# Altium footprint library MEGA.PcbLib: 13 footprints
Each footprint in its own frame and in the unit in brackets; x right, y up, seen from the top. Pads: shape width x height; smd on the part's side, far side on the other; paste and mask are expansions set on the pad; w line width, h text height; cw(c..) or ccw(c..) is an arc to the next point about the centre after c.
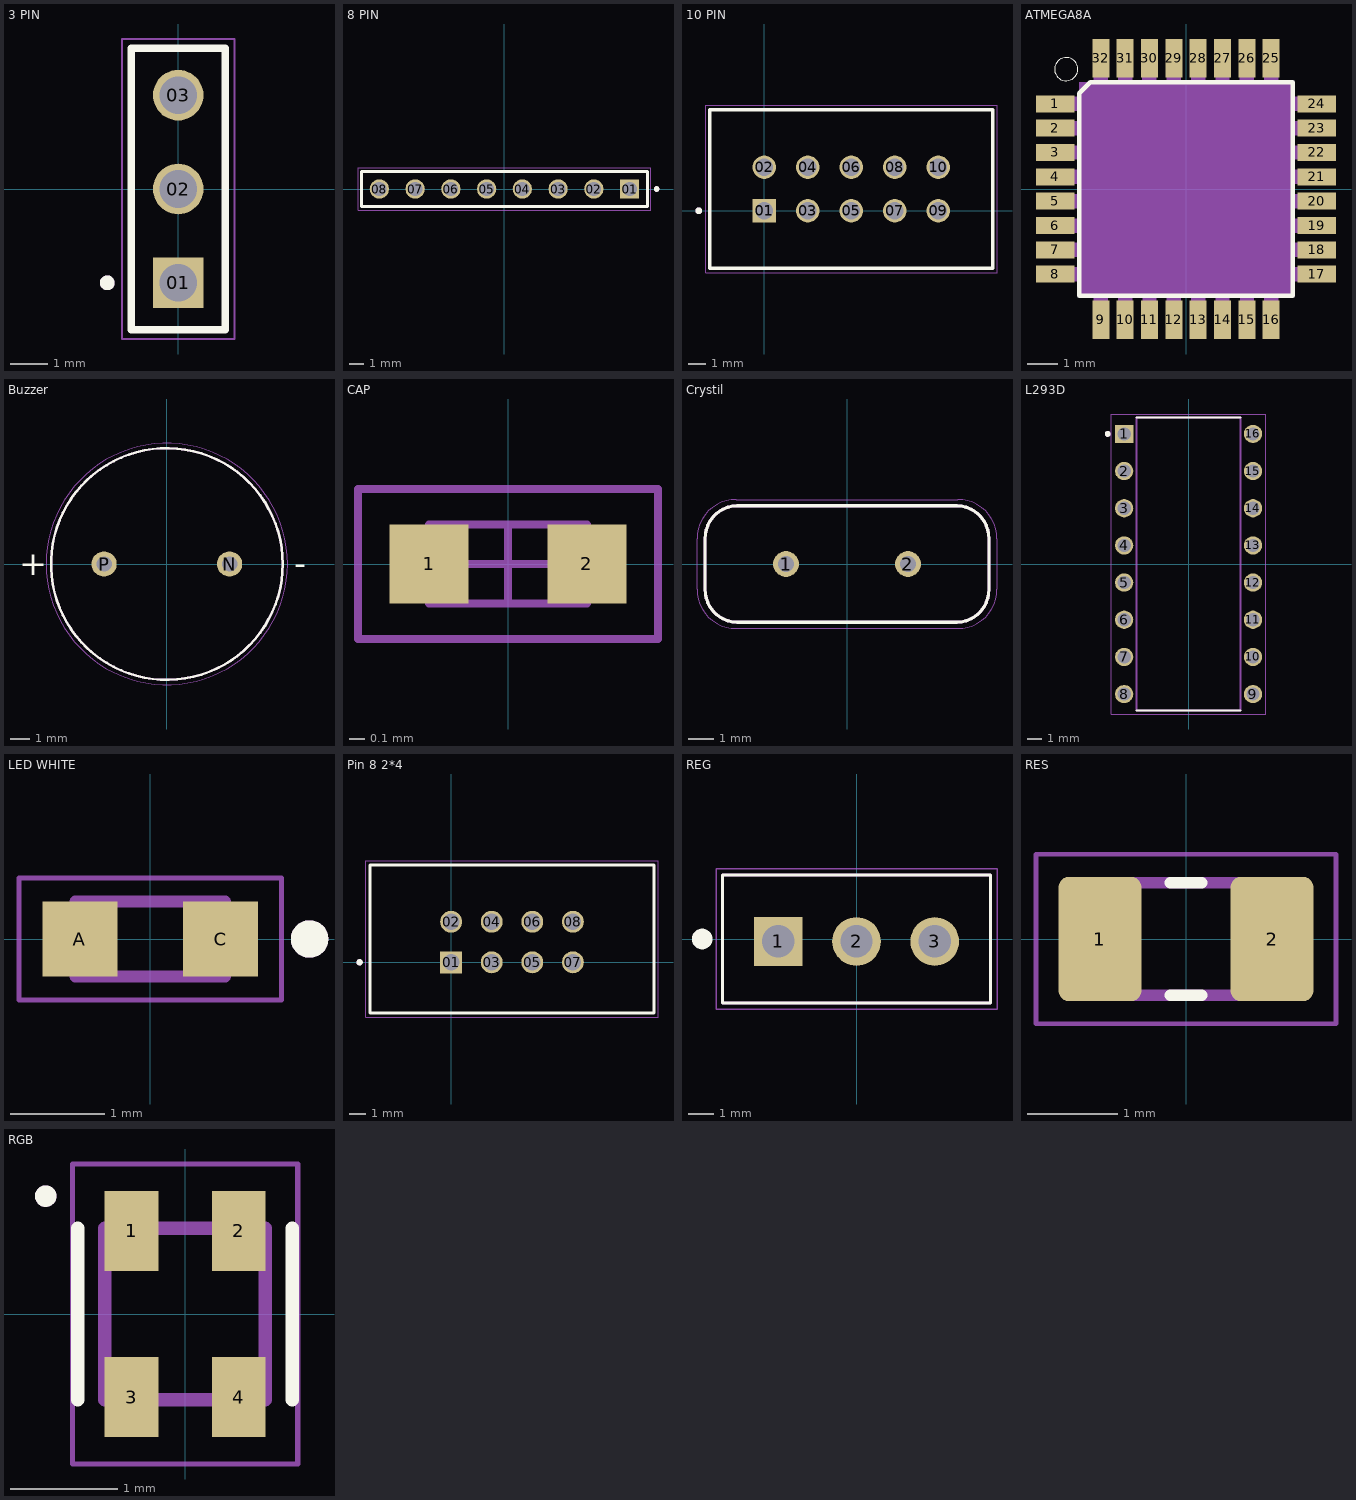
[diagram p0: the footprints below, top view; thin cyan lines are the x and y axes]

## 3 PIN [mm]
pads (3):
  rect 1.37x1.37 / inner round 1.37 / far side rect 1.37x1.37 hole 1.02: 01(0,-2.54)
  round 1.37 hole 1.02: 02(0,0) 03(0,2.54)
Top Overlay:
  circle w0.2: c-1.92,-2.54 r0.1
  lines w0.2: -1.27,-3.81 -1.27,3.81 1.27,3.81 1.27,-3.81 -1.27,-3.81
Mechanical 13:
  circle w0.2: c-1.92,-2.54 r0.1
  lines w0.1: -1.27,-3.81 -1.27,3.81 ; -1.27,-3.81 1.27,-3.81 ; -1.27,-3.81 -1.27,3.81 ; -1.27,3.81 1.27,3.81 ; -1.27,3.81 1.27,3.81 ; 1.27,-3.81 1.27,3.81 ; 1.27,-3.81 1.27,3.81
Mechanical 15:
  lines w0.05: -1.52,-4.06 -1.52,4.06 1.52,4.06 1.52,-4.06 -1.52,-4.06
3D body "TSW-101-07-T-T.stp": height 7.89, standoff -3.04, extent -1.27,-3.81 1.27,3.81

## 8 PIN [mm]
pads (8):
  rect 1.37x1.37 / inner round 1.37 / far side rect 1.37x1.37 hole 1.02: 01(8.89,0)
  round 1.37 hole 1.02: 02(6.35,0) 03(3.81,0) 04(1.27,0) 05(-1.27,0) 06(-3.81,0) 07(-6.35,0) 08(-8.89,0)
Top Overlay:
  circle w0.2: c10.81,0 r0.1
  lines w0.2: -10.16,-1.245 10.16,-1.245 10.16,1.245 -10.16,1.245 -10.16,-1.245
Mechanical 13:
  circle w0.2: c10.81,0 r0.1
  lines w0.1: -10.16,-1.245 10.16,-1.245 10.16,1.245 -10.16,1.245 -10.16,-1.245
Mechanical 15:
  lines w0.05: -10.41,-1.495 10.41,-1.495 10.41,1.495 -10.41,1.495 -10.41,-1.495
3D body "HEADER 8 PIN.stp": height 7.89, standoff -3.04, extent -10.16,-1.245 10.16,1.245

## 10 PIN [mm]
pads (10):
  rect 1.37x1.37 hole 1.02: 01(0,0)
  round 1.37 hole 1.02: 02(0,2.54) 03(2.54,0) 04(2.54,2.54) 05(5.08,0) 06(5.08,2.54) 07(7.62,0) 08(7.62,2.54) 09(10.16,0) 10(10.16,2.54)
Top Overlay:
  circle w0.2: c-3.825,0 r0.1
  lines w0.2: -3.175,-3.365 -3.175,5.905 13.335,5.905 13.335,-3.365 -3.175,-3.365
Mechanical 13:
  circle w0.2: c-3.825,0 r0.1
  lines w0.1: -3.175,-3.365 -3.175,5.905 13.335,5.905 13.335,-3.365 -3.175,-3.365
Mechanical 15:
  lines w0.05: -3.425,-3.615 -3.425,6.155 13.585,6.155 13.585,-3.615 -3.425,-3.615
3D body "TSS-105-02-L-D.stp": height 8.9, standoff -4.56, extent -3.048,-3.302 13.462,5.969

## ATMEGA8A [mil]
pads (32):
  rect 50x22 smd: 1(-169,110.24) 2(-169,78.74) 3(-169,47.24) 4(-169,15.75) 5(-169,-15.75) 6(-169,-47.24) 7(-169,-78.74) 8(-169,-110.24) 17(169,-110.24) 18(169,-78.74) 19(169,-47.24) 20(169,-15.75) 21(169,15.75) 22(169,47.24) 23(169,78.74) 24(169,110.24)
  rect 22x50 smd: 9(-110.24,-169) 10(-78.74,-169) 11(-47.24,-169) 12(-15.75,-169) 13(15.75,-169) 14(47.24,-169) 15(78.74,-169) 16(110.24,-169) 25(110.24,169) 26(78.74,169) 27(47.24,169) 28(15.75,169) 29(-15.75,169) 30(-47.24,169) 31(-78.74,169) 32(-110.24,169)
Top Overlay:
  circle w0: c-155,155 r15
  lines w6: -137.99,-137.99 -137.99,124.02 -124.02,137.99 137.99,137.99 137.99,-137.99 -137.99,-137.99
Mechanical 13:
  region: -101.24,140.03 -119.26,140.03 -119.26,179 -101.24,179
  region: -69.74,140.04 -87.76,140.04 -87.76,179 -69.74,179
  region: -38.24,140.21 -56.33,140.21 -56.33,179 -38.24,179
  region: -6.75,140.18 -24.78,140.18 -24.78,179 -6.75,179
  region: 24.75,140.16 6.76,140.16 6.76,179 24.75,179
  region: 56.24,140.03 38.25,140.03 38.25,179 56.24,179
  region: 87.74,140.14 69.81,140.14 69.81,179 87.74,179
  region: 119.24,140.15 101.35,140.15 101.35,179 119.24,179
  region: 179,101.32 140.12,101.32 140.12,119.24 179,119.24
  region: 179,69.77 140.07,69.77 140.07,87.74 179,87.74
  region: 179,38.25 140.04,38.25 140.04,56.24 179,56.24
  region: 179,6.76 140.25,6.76 140.25,24.75 179,24.75
  region: 179,-24.77 140.1,-24.77 140.1,-6.75 179,-6.75
  region: 179,-56.28 140.1,-56.28 140.1,-38.24 179,-38.24
  region: 179,-87.85 140.17,-87.85 140.17,-69.74 179,-69.74
  region: 179,-119.34 140.12,-119.34 140.12,-101.24 179,-101.24
  region: 119.24,-179.16 101.33,-179.16 101.33,-140 119.24,-140
  region: 87.74,-179.3 69.86,-179.3 69.86,-140 87.74,-140
  region: 56.24,-179.17 38.28,-179.17 38.28,-140 56.24,-140
  region: 24.75,-179.27 6.76,-179.27 6.76,-140 24.75,-140
  region: -6.75,-179.09 -24.76,-179.09 -24.76,-140 -6.75,-140
  region: -38.24,-179.01 -56.25,-179.01 -56.25,-140 -38.24,-140
  region: -69.74,-179.12 -87.8,-179.12 -87.8,-140 -69.74,-140
  region: -101.24,-179 -119.24,-179 -119.24,-140 -101.24,-140
  region: -140,-119.37 -179.21,-119.37 -179.21,-101.24 -140,-101.24
  region: -140,-87.87 -179.27,-87.87 -179.27,-69.74 -140,-69.74
  region: -140,-56.27 -179.07,-56.27 -179.07,-38.24 -140,-38.24
  region: -140,-24.78 -179.25,-24.78 -179.25,-6.75 -140,-6.75
  region: -140,6.75 -179.16,6.75 -179.16,24.75 -140,24.75
  region: -140,38.24 -179,38.24 -179,56.24 -140,56.24
  region: -140,69.79 -179.14,69.79 -179.14,87.74 -140,87.74
  region: -140,101.33 -179.17,101.33 -179.17,119.24 -140,119.24
Mechanical 15:
  region: 137.99,-138.1 -138.1,-138.1 -138.1,137.99 137.99,137.99
3D body "step_temp.STEP": height 20.67, standoff -26.57, extent -177.17,-177.17 177.17,177.17

## Buzzer [mm]
pads (2):
  round 1.308 hole 0.8: N(3.25,0) P(-3.25,0)
Top Overlay:
  circle w0.127: c0,0 r6
  text "+" at -7.655,-0.571 h1.27
  text "-" at 6.608,-0.571 h1.27
Mechanical 13:
  circle w0.127: c0,0 r6
Mechanical 15:
  circle w0.05: c0,0 r6.25
3D body "step_temp.STEP": height 8.5, standoff -5.5, extent -6,-6 6,6

## CAP [mm]
height 0.5
pads (2):
  rect 0.5x0.5 smd: 1(-0.5,0) 2(0.5,0)
Top Courtyard:
  lines w0.05: -0.95,-0.475 -0.95,0.475 0.95,0.475 0.95,-0.475 -0.95,-0.475
Top Component Outline:
  lines w0.05: -0.5,-0.25 -0.5,0.25 0.5,0.25 0.5,-0.25 -0.5,-0.25
Top Component Center:
  lines w0.05: -0.25,0 0.25,0 ; 0,-0.25 0,0.25
3D body "CAPC1005X05N.step": height 0.5, standoff 0, extent -0.5,-0.25 0.5,0.25

## Crystil [mm]
pads (2):
  round 1.03 hole 0.63: 1(-2.44,0) 2(2.44,0)
Top Overlay:
  lines w0.127: -5.675,-1.012 ccw(c-4.38,-1.035) -4.403,-2.33 ; -5.675,-1.01 -5.675,1.01 ; -5.675,1.012 cw(c-4.38,1.035) -4.403,2.33 ; -4.405,-2.33 4.405,-2.33 ; -4.405,2.33 4.405,2.33 ; 4.403,-2.33 ccw(c4.38,-1.035) 5.675,-1.012 ; 4.403,2.33 cw(c4.38,1.035) 5.675,1.012 ; 5.675,-1.01 5.675,1.01
Mechanical 13:
  lines w0.127: -5.675,-1.012 ccw(c-4.38,-1.035) -4.403,-2.33 ; -5.675,-1.01 -5.675,1.01 ; -5.675,1.012 cw(c-4.38,1.035) -4.403,2.33 ; -4.405,-2.33 4.405,-2.33 ; -4.405,2.33 4.405,2.33 ; 4.403,-2.33 ccw(c4.38,-1.035) 5.675,-1.012 ; 4.403,2.33 cw(c4.38,1.035) 5.675,1.012 ; 5.675,-1.01 5.675,1.01
Mechanical 15:
  lines w0.05: -6,-1.01 ccw(c-4.43,-1.01) -4.43,-2.58 4.43,-2.58 ccw(c4.43,-1.01) 6,-1.01 6,1.01 ccw(c4.43,1.01) 4.43,2.58 -4.43,2.58 ccw(c-4.43,1.01) -6,1.01 -6,-1.01
3D body "Crystal.STEP": height 3.51, standoff -12.69, extent -5.675,-2.325 5.675,2.325

## L293D [mm]
height 5.1
pads (16):
  rect 1.25x1.25 / inner round 1.25 / far side rect 1.25x1.25 hole 0.9: 1(-4.4,8.89)
  round 1.25 hole 0.9: 2(-4.4,6.35) 3(-4.4,3.81) 4(-4.4,1.27) 5(-4.4,-1.27) 6(-4.4,-3.81) 7(-4.4,-6.35) 8(-4.4,-8.89) 9(4.4,-8.89) 10(4.4,-6.35) 11(4.4,-3.81) 12(4.4,-1.27) 13(4.4,1.27) 14(4.4,3.81) 15(4.4,6.35) 16(4.4,8.89)
Top Overlay:
  circle w0.2: c-5.525,8.89 r0.1
  lines w0.127: -3.55,-10 3.55,-10 ; -3.55,10 3.55,10
Mechanical 13:
  circle w0.2: c-5.525,8.89 r0.1
  lines w0.127: -3.55,-10 3.55,-10 3.55,10 -3.55,10 -3.55,-10
Mechanical 15:
  lines w0.05: -5.275,-10.25 5.275,-10.25 5.275,10.25 -5.275,10.25 -5.275,-10.25
3D body "step_temp.STEP": height 5.1, standoff -3.3, extent -4.621,-10 4.62,10

## LED WHITE [mm]
pads (2):
  rect 0.8x0.8 smd: A(-0.75,0) C(0.75,0)
Top Overlay:
  circle w0.2: c1.7,0 r0.1
Mechanical 13:
  circle w0.2: c1.7,0 r0.1
  lines w0.127: -0.8,-0.4 -0.8,0.4 0.8,0.4 0.8,-0.4 -0.8,-0.4
Mechanical 15:
  lines w0.05: -1.4,-0.65 1.4,-0.65 1.4,0.65 -1.4,0.65 -1.4,-0.65

## Pin 8 2*4 [mm]
pads (8):
  rect 1.37x1.37 hole 1.02: 01(0,0)
  round 1.37 hole 1.02: 02(0,2.54) 03(2.54,0) 04(2.54,2.54) 05(5.08,0) 06(5.08,2.54) 07(7.62,0) 08(7.62,2.54)
Top Overlay:
  circle w0.2: c-5.73,0 r0.1
  lines w0.2: -5.08,-3.175 12.7,-3.175 12.7,6.095 -5.08,6.095 -5.08,-3.175
Mechanical 13:
  circle w0.2: c-5.73,0 r0.1
  lines w0.1: -5.08,-3.175 12.7,-3.175 12.7,6.095 -5.08,6.095 -5.08,-3.175
Mechanical 15:
  lines w0.05: -5.33,-3.425 12.95,-3.425 12.95,6.345 -5.33,6.345 -5.33,-3.425
3D body "8 PIN REC.stp": height 8.9, standoff -3.29, extent -5.08,-3.175 12.7,6.096

## REG [mm]
pads (3):
  rect 1.89x1.89 hole 1.26: 1(-3.04,-0.095)
  round 1.89 hole 1.26: 2(0,-0.095) 3(3.04,-0.095)
Top Overlay:
  circle w0.4: c-6,0 r0.2
  lines w0.127: -5.21,-2.49 5.21,-2.49 5.21,2.49 -5.21,2.49 -5.21,-2.49
Mechanical 13:
  circle w0.4: c-3.04,-0.095 r0.2
  lines w0.127: -5.21,-2.49 5.21,-2.49 5.21,2.49 -5.21,2.49 -5.21,-2.49
Mechanical 15:
  lines w0.05: -5.46,-2.74 -5.46,2.74 5.46,2.74 5.46,-2.74 -5.46,-2.74
3D body "step_temp.STEP": height 15.69, standoff -13.5, extent -5.1,-2.921 5.1,4.159

## RES [mm]
height 0.6
pads (2):
  rrect25% 0.92x1.38 smd: 1(-0.955,0) 2(0.955,0)
Top Overlay:
  lines w0.127: -0.175,-0.625 0.175,-0.625 ; -0.175,0.625 0.175,0.625
Mechanical 13:
  lines w0.127: -1,-0.625 1,-0.625 1,0.625 -1,0.625 -1,-0.625
Mechanical 15:
  lines w0.05: -1.665,-0.94 -1.665,0.94 1.665,0.94 1.665,-0.94 -1.665,-0.94
3D body "step_temp.STEP": height 0.3, standoff -0.3, extent -1,-0.625 1,0.625

## RGB [mm]
pads (4):
  rect 0.5x0.75 smd: 1(-0.5,0.775) 2(0.5,0.775) 3(-0.5,-0.775) 4(0.5,-0.775)
Top Overlay:
  circle w0.1: c-1.3,1.1 r0.05
  lines w0.127: -1,-0.8 -1,0.8 ; 1,-0.8 1,0.8
Mechanical 13:
  circle w0.1: c-1.3,1.1 r0.05
  lines w0.127: -0.75,-0.8 -0.75,0.8 0.75,0.8 0.75,-0.8 -0.75,-0.8
Mechanical 15:
  lines w0.05: -1.05,-1.4 1.05,-1.4 1.05,1.4 -1.05,1.4 -1.05,-1.4